# Altium integrated library DMG3415UFY4Q-7.IntLib: 1 symbol
Pins are listed as number, name and electrical type; pins without a type are passive.

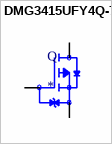
[diagram p0: symbol DMG3415UFY4Q-7]

## DMG3415UFY4Q-7
designator Q
P-Channel 16V 2.5A _Ta_ 650mW _Ta_ Surface Mount X2-DFN2015-3; MP: DMG3415UFY4Q-7; MF: Diodes Inc.; SnapEDA_Link: https://www.snapeda.com/parts/DMG3415UFY4Q-7/Diodes%20Inc./view-part/653971/?ref=snap; Value: *; Package: DFN-2 Diodes Inc.; Digi-Key_Part_Number: DMG3415UFY4Q-7DICT-ND
footprint TRANS_DMG3415UFY4Q-7
pins: 1 G, 2 S, 3 D